# EAGLE library part TPS54350 (library MAX9812)
TI's TPS54350 4.5V to 20V input 3Amp output buck stepdown switcher with integrated highside 100mOhm fet and optional lowside synchronous rectifier gate drive or diode. 250kHz to 700kHz fixed or adjustable PWM frequency Internal current and thermal protection 16 pin TSSOP PowerPAD package (central pad is ground) DESCRIPTION The TPS54350 is a medium output current synchronous buck PWM converter with an integrated high side MOSFET and a gate driver for an optional low side external MOSFET. Features include a high performance voltage error amplifier that enables maximum performance under transient conditions and flexibility in choosing the output filter inductors and capacitors. The TPS54350 has an under-voltage-lockout circuit to prevent start-up until the input voltage reaches 4.5 V; an internal slow-start circuit to limit in-rush currents; and a power good output to indicate valid output conditions. The synchronization feature is configurable as either an input or an output for easy 180° out of phase synchronization. The TPS54350 device is available in a thermally enhanced 16-pin TSSOP (PWP) PowerPAD? package. TI provides evaluation modules and the SWIFT? Designer software tool to aid in quickly achieving high-performance power supply designs to meet aggressive equipment development cycles. FEATURES 100 m?, 4.5-A Peak MOSFET Switch for High Efficiency at 3-A Continuous Output Current Uses External Lowside MOSFET or Diode Output Voltage Adjustable Down to 0.891 V With 1% Accuracy Synchronizes to External Clock 180 Out of Phase Synchronization Wide PWM Frequency ? Fixed 250 kHz, 500 kHz or Adjustable 250 kHz to 700 kHz Internal Slow Start Load Protected by Peak Current Limit andThermal Shutdown Adjustable Undervoltage Lockout 16-Pin TSSOP PowerPAD Package APPLICATIONS Industrial & Commercial Low Power Systems LCD Monitors and TVs Computer Peripherals Point of Load Regulation for High Performance DSPs, FPGAs, ASICs and Microprocessors Please send any comments to: messi@users.sourceforge.net
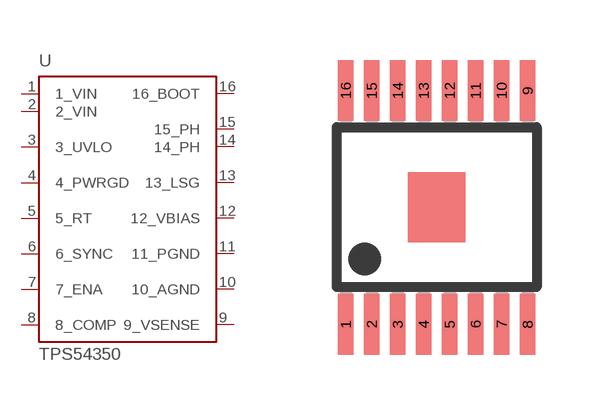
[diagram p44: symbol with the pads of PWP-16; footprint PWP-16]

Designator prefix U

## TPS54350  [PWP-16]
1  1_VIN  pwr
2  2_VIN  pwr
3  3_UVLO  in
4  4_PWRGD  out
5  5_RT  in
6  6_SYNC
7  7_ENA  in
8  8_COMP  out
9  9_VSENSE  in
10  10_AGND  pwr
11  11_PGND  pwr
12  12_VBIAS  pas
13  13_LSG  out
14  14_PH  out
15  15_PH  out
16  16_BOOT  pas

## Footprint PWP-16 (pad centres in mm)
TI TPS54350 buck stepdown 3Amp switcher 16 pin TSSOP PowerPAD package (central pad is ground)
smd 0.381 x 1.524: 1 -2.275,-2.925; 2 -1.625,-2.925; 3 -0.975,-2.925; 4 -0.325,-2.925; 5 0.325,-2.925; 6 0.975,-2.925; 7 1.625,-2.925; 8 2.275,-2.925; 9 2.275,2.917; 10 1.625,2.917; 11 0.975,2.917; 12 0.325,2.917; 13 -0.325,2.917; 14 -0.975,2.917; 15 -1.625,2.917; 16 -2.275,2.917